# Altium schematic symbol library 49R9.Schlib: 1 symbol
Pins are listed as number, name and electrical type; pins without a type are passive.

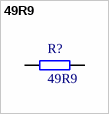
[diagram p0: symbol 49R9]

## 49R9
designator R?
R; 49R9; 0.125W; 0.1%; 100V; Thin Film; ±25ppm/K; 1x;; Value: 49R9; ComponentLink1Description: Datasheet; ComponentLink1URL: https://bg.farnell.com/panasonic/era6aeb49r9v/res-0805-49r9-0-125w-metal-film/dp/1810372
footprint RESC2012X06N(SMR0805) (Chip Resistor, 2-Leads, Body 2,00x1,25mm, IPC Medium Density)
pins: 1, 2